# Altium footprint library 750V-021-12.PcbLib: 1 footprints
Each footprint in its own frame and in the unit in brackets; x right, y up, seen from the top. Pads: shape width x height; smd on the part's side, far side on the other; paste and mask are expansions set on the pad; w line width, h text height; cw(c..) or ccw(c..) is an arc to the next point about the centre after c.
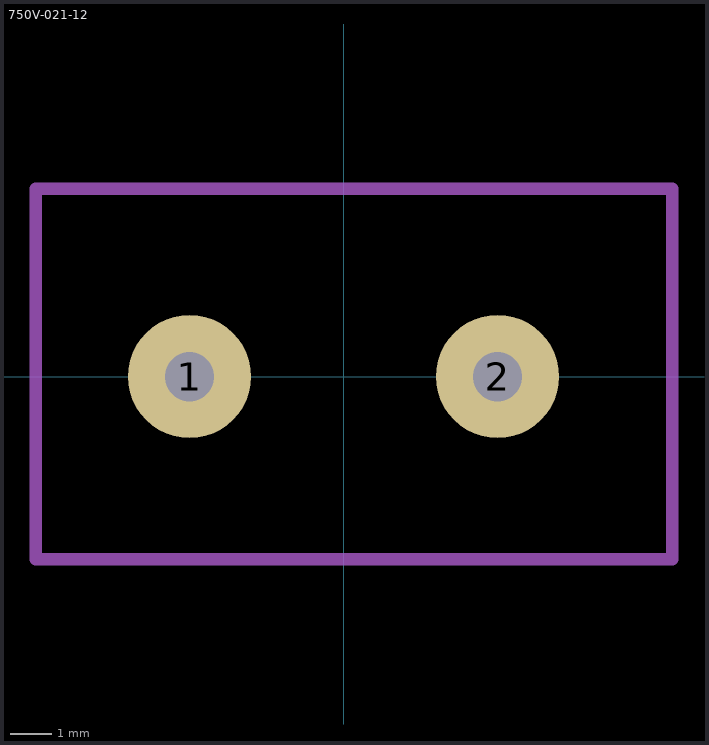
[diagram p0: the footprint, top view; thin cyan lines are the x and y axes]

## 750V-021-12 [mm]
pads (2):
  round 3 hole 1.2: 1(-3.75,0) 2(3.75,0)
Mechanical 13:
  lines w0.3: -7.493,-4.445 8.001,-4.445 8.001,4.572 -7.493,4.572 -7.493,-4.445
  text ".Designator" at -4.639,-3.937 h2.5
3D body: height 15, standoff -3.5, extent -7.496,-4.445 8.004,4.555